# Altium footprint library BC8SATEV1.01.PcbLib: 63 footprints (part 1 of 4)
Each footprint in its own frame and in the unit in brackets; x right, y up, seen from the top. Pads: shape width x height; smd on the part's side, far side on the other; paste and mask are expansions set on the pad; w line width, h text height; cw(c..) or ccw(c..) is an arc to the next point about the centre after c.
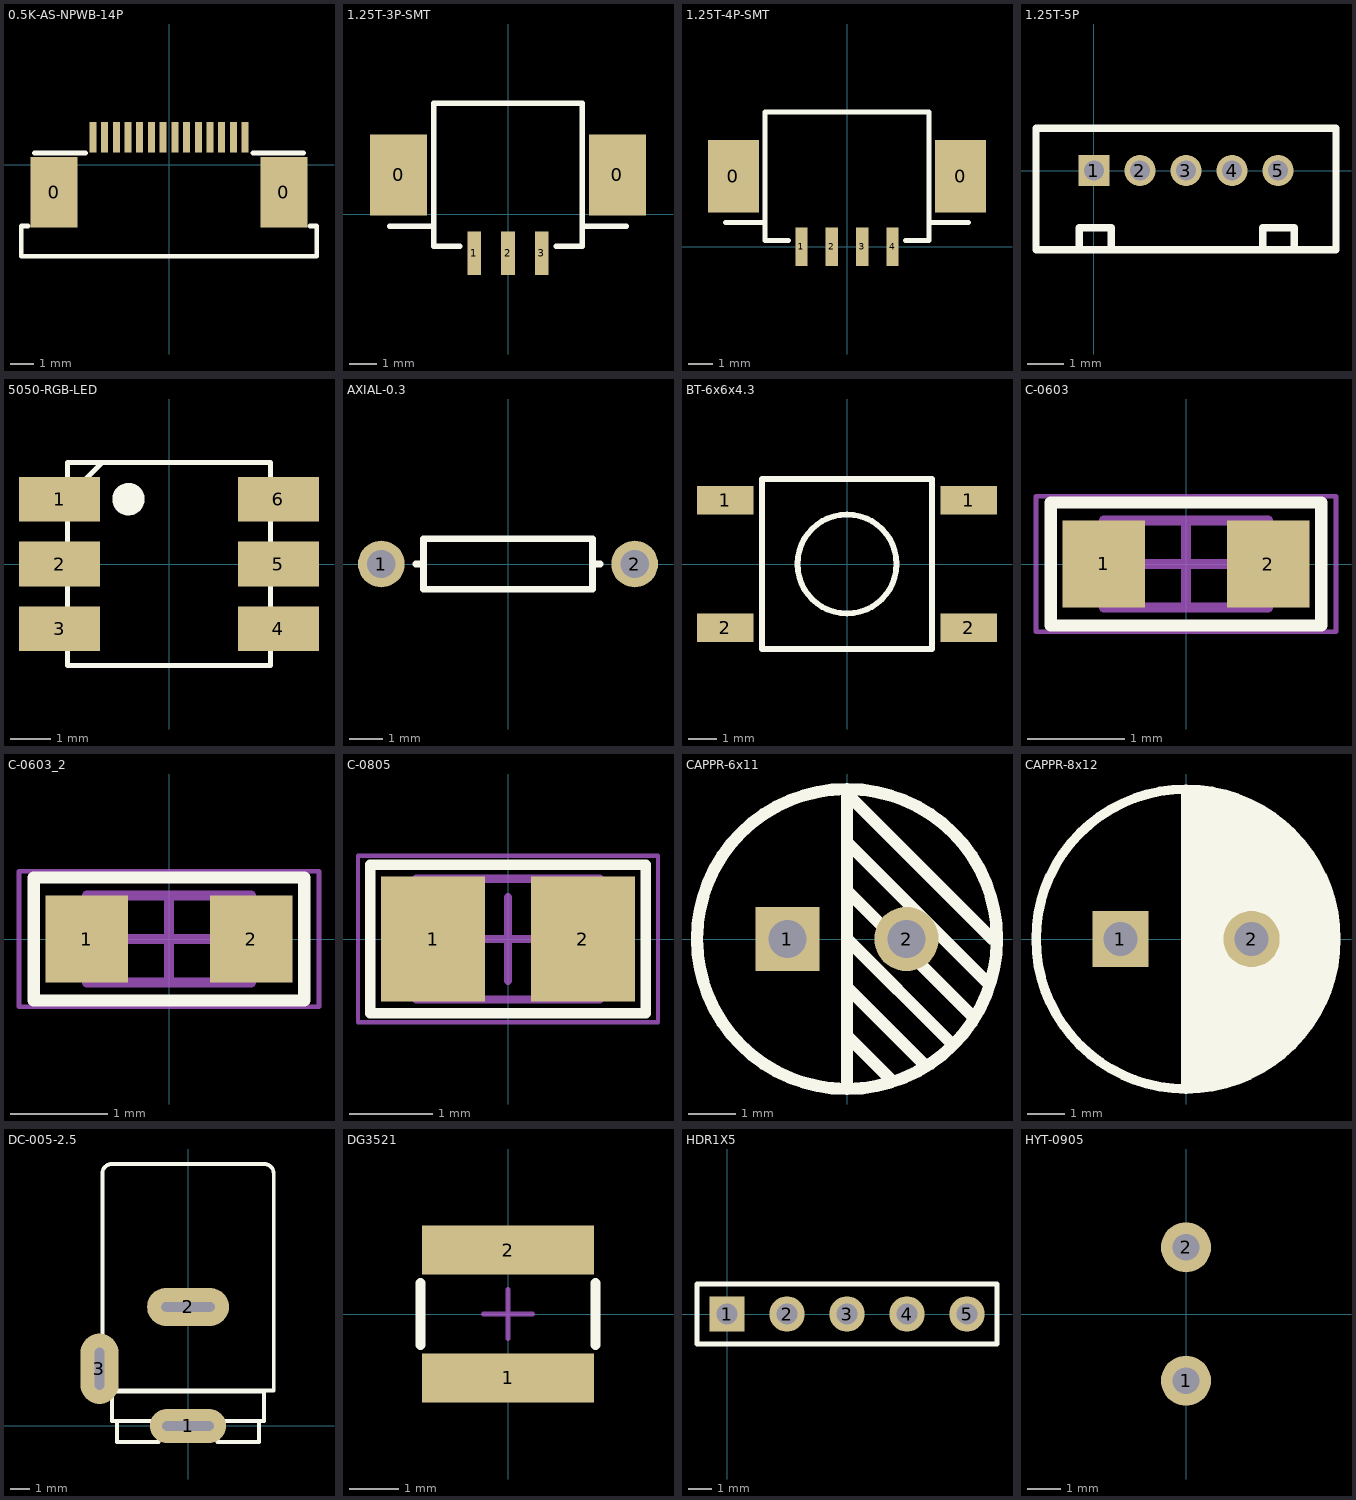
[diagram p0: the footprints below, top view; thin cyan lines are the x and y axes]

## 0.5K-AS-NPWB-14P [mm]
height 7.7
pads (16):
  rect 2x3 smd: 0(-4.9,-1.175) 0(4.9,-1.175)
  rect 0.3x1.3 smd: 1(3.25,1.175) 2(2.75,1.175) 3(2.25,1.175) 4(1.75,1.175) 5(1.25,1.175) 6(0.75,1.175) 7(0.25,1.175) 8(-0.25,1.175) 9(-0.75,1.175) 10(-1.25,1.175) 11(-1.75,1.175) 12(-2.25,1.175) 13(-2.75,1.175) 14(-3.25,1.175)
Top Overlay:
  lines w0.203: -6.019,-2.617 -6.3,-2.617 -6.3,-3.905 6.3,-3.905 6.3,-2.617 6.019,-2.617 ; -5.75,0.495 -3.556,0.495 ; 3.569,0.495 5.75,0.495
3D body: height 2, standoff 0, extent -6.3,-3.905 6.3,0.495

## 1.25T-3P-SMT [mm] "卧贴"
pads (5):
  rect 2.1x3 smd: 0(-4.05,1.45) 0(4.05,1.45)
  rect 0.5x1.6 smd: 1(-1.25,-1.45) 2(0,-1.45) 3(1.25,-1.45)
Top Overlay:
  lines w0.203: -4.375,-0.45 -2.75,-0.45 ; -1.792,-1.2 -2.75,-1.2 -2.75,4.1 2.75,4.1 2.75,-1.2 1.792,-1.2 ; 2.75,-0.45 4.375,-0.45
3D body: height 3.65, standoff 0, extent -4.375,-1.2 4.375,4.1

## 1.25T-4P-SMT [mm]
pads (6):
  rect 2.1x3 smd: 0(-4.675,2.9) 0(4.675,2.9)
  rect 0.5x1.6 smd: 1(-1.875,0) 2(-0.625,0) 3(0.625,0) 4(1.875,0)
Top Overlay:
  lines w0.203: -5,1 -3.375,1 ; -2.417,0.25 -3.375,0.25 -3.375,5.55 3.375,5.55 3.375,0.25 2.417,0.25 ; 3.375,1 5,1
3D body: height 3.65, standoff 0, extent -5,0.25 5,5.55

## 1.25T-5P [mm]
pads (5):
  rect 0.85x0.85 hole 0.55: 1(0,0)
  round 0.85 hole 0.55: 2(1.25,0) 3(2.5,0) 4(3.75,0) 5(5,0)
Top Overlay:
  lines w0.2: -1.575,-2.15 -1.575,1.15 6.575,1.15 6.575,-2.15 -1.575,-2.15
  lines w0.203: -0.396,-2.15 -0.396,-1.549 0.468,-1.549 0.468,-2.15 ; 4.583,-2.15 4.583,-1.549 5.446,-1.549 5.446,-2.15
3D body: height 4.65, standoff 0, extent -1.575,-2.15 6.575,1.15

## 5050-RGB-LED [mm] "SOIC, 2-Leads, Body 1.30x1.70mm, Pitch 1.27mm, IPC High Density"
height 0.65
pads (6):
  rect 2x1.1 smd: 1(-2.7,1.6) 2(-2.7,0) 3(-2.7,-1.6) 4(2.7,-1.6) 5(2.7,0) 6(2.7,1.6)
Top Overlay:
  circle w0.4: c-1,1.6 r0.2
  lines w0.127: -2.5,1.651 -1.651,2.5 ; -2.5,-2.5 2.5,-2.5 2.5,2.5 -2.5,2.5 -2.5,-2.5
3D body: height 2, standoff 0, extent -2.54,-2.413 2.54,2.54

## AXIAL-0.3 [mm] "Axial Device, Thru-Hole; 2 Leads; 0.3 in Pin Spacing"
height 1.524
pads (2):
  round 1.4 hole 0.85: 1(-3.81,0) 2(3.81,0)
Top Overlay:
  lines w0.2: -2.769,0 -2.54,0 ; 2.769,0 2.54,0 ; 2.54,0 2.54,0.762 -2.54,0.762 -2.54,-0.762 2.54,-0.762 2.54,0

## BT-6x6x4.3 [mm]
pads (4):
  rect 2x1 smd: 1(-4.3,2.25) 1(4.3,2.25) 2(-4.3,-2.25) 2(4.3,-2.25)
Top Overlay:
  circle w0.203: c0,0 r1.75
  lines w0.203: -3,-3 -3,3 3,3 3,-3 -3,-3
3D body: height 3.5, standoff 0, extent -3,-3 3,3
3D body: height 4.3, standoff 0, extent -1.75,-1.749 1.75,1.75

## C-0603 [mm] "Chip Capacitor, 2-Leads, Body 1.60x0.80mm, IPC Medium Density"
height 0.9
pads (2):
  rect 0.85x0.9 smd: 1(-0.85,0) 2(0.85,0)
Top Overlay:
  lines w0.127: -1.397,-0.635 1.397,-0.635 1.397,0.635 -1.397,0.635 -1.397,-0.635
Mechanical 13:
  lines w0.1: -0.85,-0.45 -0.85,0.45 0.85,0.45 0.85,-0.45 -0.85,-0.45
Mechanical 15:
  lines w0.05: -1.55,-0.7 -1.55,0.7 1.55,0.7 1.55,-0.7 -1.55,-0.7
  lines w0.1: -0.45,0 0.45,0 ; 0,-0.45 0,0.45
3D body: height 0.9, standoff 0, extent -0.55,-0.45 0.55,0.45
3D body: height 0.9, standoff 0, extent -0.85,-0.45 -0.55,0.45
3D body: height 0.9, standoff 0, extent 0.55,-0.45 0.85,0.45

## C-0603_2 [mm]
pads (2):
  rect 0.85x0.9 smd: 1(-0.85,0) 2(0.85,0)
Top Overlay:
  lines w0.127: -1.397,-0.635 1.397,-0.635 1.397,0.635 -1.397,0.635 -1.397,-0.635
Mechanical 13:
  lines w0.1: -0.85,-0.45 -0.85,0.45 0.85,0.45 0.85,-0.45 -0.85,-0.45
Mechanical 15:
  lines w0.05: -1.55,-0.7 -1.55,0.7 1.55,0.7 1.55,-0.7 -1.55,-0.7
  lines w0.1: -0.45,0 0.45,0 ; 0,-0.45 0,0.45
3D body: height 0.9, standoff 0, extent -0.55,-0.45 0.55,0.45
3D body: height 0.9, standoff 0, extent -0.85,-0.45 -0.55,0.45
3D body: height 0.9, standoff 0, extent 0.55,-0.45 0.85,0.45

## C-0805 [mm] "Chip Capacitor, 2-Leads, Body 2.00x1.25mm, IPC Medium Density"
height 1.45
pads (2):
  rect 1.25x1.5 smd: 1(-0.9,0) 2(0.9,0)
Top Overlay:
  lines w0.127: -1.651,-0.889 -1.651,0.889 1.651,0.889 1.651,-0.889 -1.651,-0.889
Mechanical 13:
  lines w0.1: -1.1,-0.725 -1.1,0.725 1.1,0.725 1.1,-0.725 -1.1,-0.725
Mechanical 15:
  lines w0.05: -1.8,-1 -1.8,1 1.8,1 1.8,-1 -1.8,-1
  lines w0.1: -0.5,0 0.5,0 ; 0,-0.5 0,0.5
3D body: height 1.45, standoff 0, extent -0.6,-0.725 0.6,0.725
3D body: height 1.45, standoff 0, extent -1.1,-0.725 -0.6,0.725
3D body: height 1.45, standoff 0, extent 0.6,-0.725 1.1,0.725

## CAPPR-6x11 [mm] "Capacitor, Electrolytic, Radial; Body 6.3 x 11.5 mm (Dia.xH typ); Pin Spacing 5 mm (typ)"
height 13
pads (2):
  rect 1.35x1.35 hole 0.8: 1(-1.25,0)
  round 1.35 hole 0.8: 2(1.25,0)
Top Overlay:
  circle w0.254: c0,0 r3.15
  lines w0.254: 0,-3.048 0,3.048 3.048,0 ; 0,-2.032 0.889,-2.921 ; 0,-1.016 1.651,-2.667 ; 0,0 2.159,-2.159 ; 0,1.016 2.667,-1.651 ; 0,2.032 2.921,-0.889
3D body: height 11, standoff 0, extent -3.2,-3.199 3.2,3.199

## CAPPR-8x12 [mm] "Capacitor, Electrolytic, Radial; Body 6.3 x 11.5 mm (Dia.xH typ); Pin Spacing 5 mm (typ)"
height 13
pads (2):
  rect 1.5x1.5 hole 0.9: 1(-1.75,0)
  round 1.5 hole 0.9: 2(1.75,0)
Top Overlay:
  circle w0.254: c0,0 r4
  region: 0,3.937 0.532,4.004 2.286,3.302 3.175,2.413 3.937,1.016 3.937,-0.635 3.429,-2.032 2.54,-3.048 1.651,-3.683 0.889,-3.937 0,-3.937
  lines w0.254: 0,-3.937 0,3.937
3D body: height 12, standoff 0, extent -4,-3.998 4,3.999

## DC-005-2.5 [mm]
pads (3):
  oval 4x1.8 hole 0.5 slot 2.7 at 0 deg: 1(0,0)
  oval 4.3x2 hole 0.5 slot 2.8 at 0 deg: 2(0,6.249)
  oval 2x3.7 hole 0.5 slot 2.2 at 90 deg: 3(-4.65,3)
Top Overlay:
  lines w0.203: -4,1.85 -4.5,1.85 -4.5,10.25 -4.5,13.25 cw(c-4,13.25) -4,13.75 4,13.75 cw(c4,13.25) 4.5,13.25 4.5,10.25 4.5,1.85 3.99,1.85 -3.99,1.85 ; -3.725,0.25 -3.725,-0.85 -1.54,-0.85 -1.54,-0.268 ; -3.125,1.85 3.125,1.85 ; -1.32,0.25 -3.99,0.25 -3.99,1.8 3.99,1.8 3.99,0.25 1.32,0.25 ; 1.54,-0.268 1.54,-0.85 3.725,-0.85 3.725,0.25
3D body "DC-005-2.0.stp": height 11.01, standoff -3.69, extent -4.65,-0.85 4.65,13.75

## DG3521 [mm]
pads (2):
  rect 3.5x1 smd: 1(0,-1.3) 2(0,1.3)
Top Overlay:
  lines w0.203: -1.778,-0.635 -1.778,0.635 ; 1.778,-0.635 1.778,0.635
Mechanical 15:
  lines w0.1: -0.5,0 0.5,0 ; 0,-0.5 0,0.5
3D body: height 2.1, standoff 0, extent -1.778,-1.778 1.778,1.778

## HDR1X5 [mm] "Connector; Header; 5 Position"
height 0.65
pads (5):
  rect 1.5x1.5 hole 0.9: 1(0,0)
  round 1.5 hole 0.9: 2(2.54,0) 3(5.08,0) 4(7.62,0) 5(10.16,0)
Top Overlay:
  lines w0.2: -1.27,-1.27 -1.27,1.27 11.43,1.27 11.43,-1.27 -1.27,-1.27

## HYT-0905 [mm]
height 0.65
pads (2):
  round 1.5 hole 0.8: 1(0,-2) 2(0,2)
Bottom Overlay:
  circle w0.254: c0,0 r4.5
3D body: height 5.5, standoff 0, extent -4.5,-4.5 4.5,4.5